# Altium schematic symbol library Lab1.SchLib: 4 symbols
Pins are listed as number, name and electrical type; pins without a type are passive.

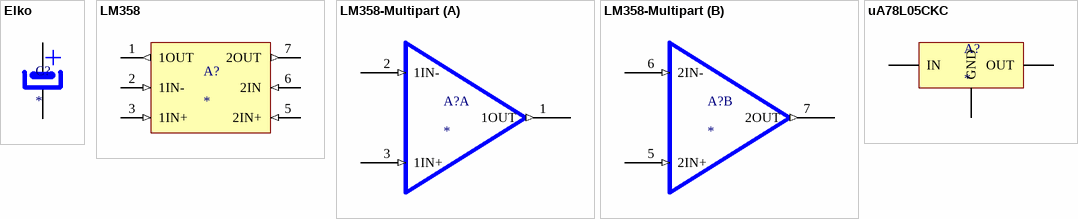
[diagram p0: symbols Elko to uA78L05CKC]

## Elko
designator C?
pins: 1, 2

## LM358
designator A?
pins: 1 1OUT (out), 2 1IN- (in), 3 1IN+ (in), 4 GND (power) hidden to GND, 5 2IN+ (in), 6 2IN (in), 7 2OUT (out), 8 VCC (power) hidden

## LM358-Multipart
designator A?
part A pins: 1 1OUT (out), 2 1IN- (in), 3 1IN+ (in), 4 GND (power) hidden to GND, 8 VCC (power) hidden to VCC
part B pins: 4 GND (power) hidden to GND, 5 2IN+ (in), 6 2IN- (in), 7 2OUT (out), 8 VCC (power) hidden to VCC

## uA78L05CKC
designator A?
pins: 15 IN, 16 OUT, 17 GND